# Altium integrated library TI Data Converters Digital to Analog Converter.IntLib: 1533 symbols (part 1 of 99)
Pins are listed as number, name and electrical type; pins without a type are passive.

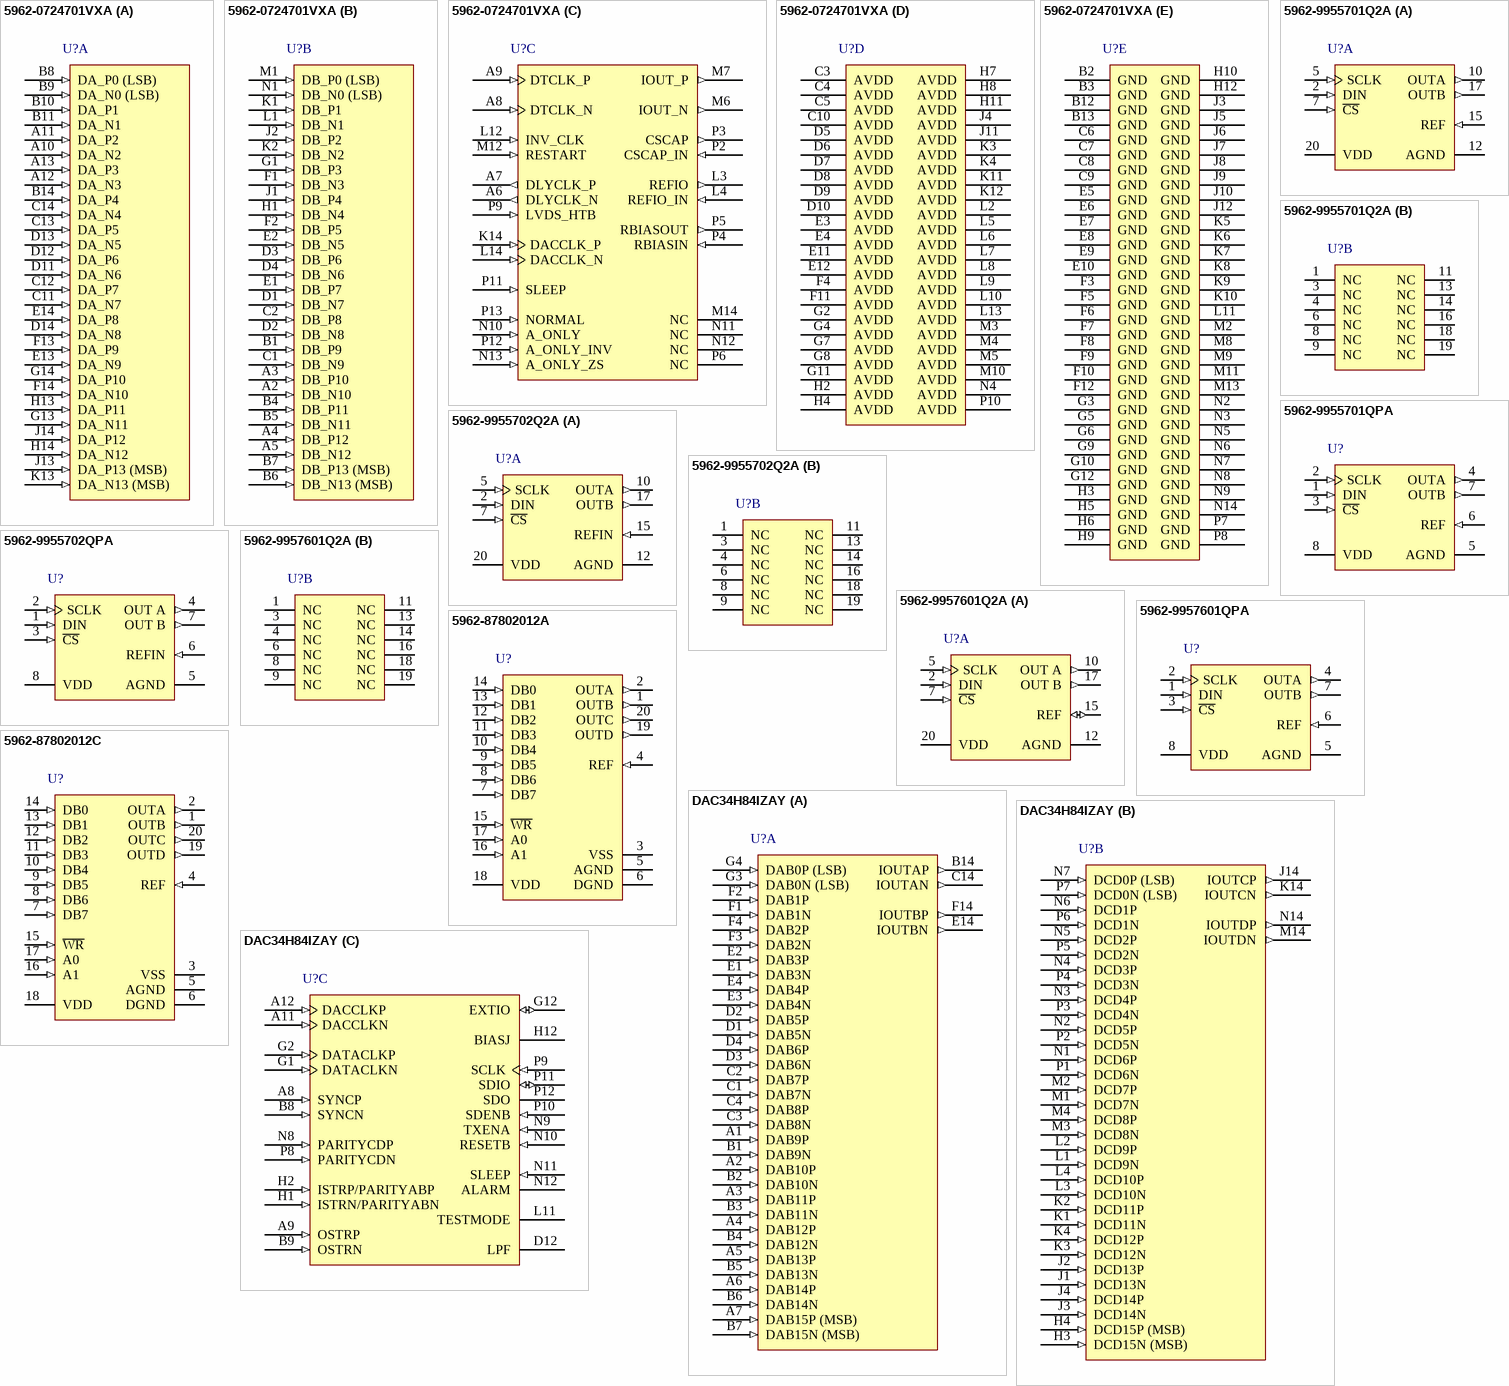
[diagram p0: symbols 5962-0724701VXA to DAC34H84IZAY]

## 5962-0724701VXA
designator U?
14-Bit, 2.4 GSPS DAC, -55 to 125 degC, 192-pin BGA (GEM192); Manufacturer: Texas Instruments; PartNumber: 5962-0724701VXA; DAC Channels: 1; DNL(Max)(+/-LSB): 1.75; INL(Max)(+/-LSB): 7.5; Interface: Parallel LVDS; Power Consumption(Typ)(mW): 1800; Resolution(Bits): 14; Settling Time(us): 0.0035; SFDR(dB): 55; SNR(dB): 60; SubFamily: High Speed DAC (>10MSPS); DatasheetVersion: SGLS386D; PackageVersion: 4209149/A, 11/2007; PackageReference: GEM192; PackageDescription: 192-Pin Ceramic Ball Grid Array, Body 19 x 19 mm, Pitch 1.27 mm; Supplier 1: Mouser; Supplier Part Number 1: 595-5962-0724701VXA; Mounting Technology: Surface Mount; Code_JEDEC: MO-156; ComponentLink1Description: Manufacturer URL; ComponentLink1URL: http://www.ti.com/; ComponentLink2Description: Datasheet; ComponentLink2URL: http://www.ti.com/general/docs/lit/getliterature.tsp?genericPartNumber=DAC5670-SP&fileType=pdf; ComponentLink3Description: Package Specification; ComponentLink3URL: http://www.ti.com/litv/pdf/mcbg054
footprint TI-GEM192 (BGA, 192-Balls, Body 19x19mm, Pitch 1.27mm)
part A pins: A10 DA_N2 (in) "Port A data bit 2 complement", A11 DA_P2 (in) "Port A data bit 2", A12 DA_N3 (in) "Port A data bit 3 complement", A13 DA_P3 (in) "Port A data bit 3", B8 DA_P0 (LSB) (in) "Port A data bit 0 (LSB)", B9 DA_N0 (LSB) (in) "Port A data bit 0 complement (LSB)", B10 DA_P1 (in) "Port A data bit 1", B11 DA_N1 (in) "Port A data bit 1 complement", B14 DA_P4 (in) "Port A data bit 4", C11 DA_N7 (in) "Port A data bit 7 complement", C12 DA_P7 (in) "Port A data bit 7", C13 DA_P5 (in) "Port A data bit 5", C14 DA_N4 (in) "Port A data bit 4 complement", D11 DA_N6 (in) "Port A data bit 6 complement", D12 DA_P6 (in) "Port A data bit 6", D13 DA_N5 (in) "Port A data bit 5 complement", D14 DA_N8 (in) "Port A data bit 8 complement", E13 DA_N9 (in) "Port A data bit 9 complement", E14 DA_P8 (in) "Port A data bit 8", F13 DA_P9 (in) "Port A data bit 9", F14 DA_N10 (in) "Port A data bit 10 complement", G13 DA_N11 (in) "Port A data bit 11 complement", G14 DA_P10 (in) "Port A data bit 10", H13 DA_P11 (in) "Port A data bit 11", H14 DA_N12 (in) "Port A data bit 12 complement", J13 DA_P13 (MSB) (in) "Port A data bit 13 (MSB)", J14 DA_P12 (in) "Port A data bit 12", K13 DA_N13 (MSB) (in) "Port A data bit 13 complement (MSB)"
part B pins: A2 DB_N10 (in) "Port B data bit 10 complement", A3 DB_P10 (in) "Port B data bit 10", A4 DB_P12 (in) "Port B data bit 12", A5 DB_N12 (in) "Port B data bit 12 complement", B1 DB_P9 (in) "Port B data bit 9", B4 DB_P11 (in) "Port B data bit 11", B5 DB_N11 (in) "Port B data bit 11 complement", B6 DB_N13 (MSB) (in) "Port B data bit 13 complement (MSB)", B7 DB_P13 (MSB) (in) "Port B data bit 13 (MSB)", C1 DB_N9 (in) "Port B data bit 9 complement", C2 DB_P8 (in) "Port B data bit 8", D1 DB_N7 (in) "Port B data bit 7 complement", D2 DB_N8 (in) "Port B data bit 8 complement", D3 DB_P6 (in) "Port B data bit 6", D4 DB_N6 (in) "Port B data bit 6 complement", E1 DB_P7 (in) "Port B data bit 7", E2 DB_N5 (in) "Port B data bit 5 complement", F1 DB_N3 (in) "Port B data bit 3 complement", F2 DB_P5 (in) "Port B data bit 5", G1 DB_P3 (in) "Port B data bit 3", H1 DB_N4 (in) "Port B data bit 4 complement", J1 DB_P4 (in) "Port B data bit 4", J2 DB_P2 (in) "Port B data bit 2", K1 DB_P1 (in) "Port B data bit 1", K2 DB_N2 (in) "Port B data bit 2 complement", L1 DB_N1 (in) "Port B data bit 1 complement", M1 DB_P0 (LSB) (in) "Port B data bit 0 (LSB)", N1 DB_N0 (LSB) (in) "Port B data bit 0 complement (LSB)"
part C pins: A6 DLYCLK_N (out) "DDR type data clock to data source complementary signal", A7 DLYCLK_P (out) "DDR type data clock to data source", A8 DTCLK_N (in) "Input data toggling reference bit, complementary signal", A9 DTCLK_P (in) "Input data toggling reference bit", K14 DACCLK_P (in) "External clock, sample clock for the DAC", L3 REFIO (out) "Bandgap reference output", L4 REFIO_IN (in) "Bandgap reference sense input", L12 INV_CLK (in) "Inverts the DLL target clocking relationship when high. Low for normal DLL operation. See DLL Usage section.", L14 DACCLK_N (in) "Complementary external clock, sample clock for the DAC", M6 IOUT_N (out) "DAC complementary current output. Full scale when all input bits are 0.", M7 IOUT_P (out) "DAC current output. Full scale when all input bits are set 1.", M12 RESTART (in) "Resets DLL when high. Low for DLL operation. High for using external setup/hold timing.", M14 NC, N10 A_ONLY (in) "High for {a0,a0,a1,a1,a2,a2, …} A_only mode", N11 NC, N12 NC, N13 A_ONLY_ZS (in) "High for {a0,0,a1,0,a2,0, …} A_only_zs mode", P2 CSCAP_IN (in) "Current source bias voltage sense input", P3 CSCAP (out) "Current source bias voltage", P4 RBIASIN (in) "Rbias resistor sense input", P5 RBIASOUT (out) "Rbias resistor current output", P6 NC, P9 LVDS_HTB (in) "DLYCLK_P/N control, lvds mode when high, ht mode when low", P11 SLEEP (in) "Active-high sleep", P12 A_ONLY_INV (in) "High for {a0,-a0, a1,-a1,a2,-a2, ...} A_only_inv mode", P13 NORMAL (in) "High for {a0,b0,a1,b1,a2,b2, …} normal mode"
part D pins: C3 AVDD (power), C4 AVDD (power), C5 AVDD (power), C10 AVDD (power), D5 AVDD (power), D6 AVDD (power), D7 AVDD (power), D8 AVDD (power), D9 AVDD (power), D10 AVDD (power), E3 AVDD (power), E4 AVDD (power), E11 AVDD (power), E12 AVDD (power), F4 AVDD (power), F11 AVDD (power), G2 AVDD (power), G4 AVDD (power), G7 AVDD (power), G8 AVDD (power), G11 AVDD (power), H2 AVDD (power), H4 AVDD (power), H7 AVDD (power), H8 AVDD (power), H11 AVDD (power), J4 AVDD (power), J11 AVDD (power), K3 AVDD (power), K4 AVDD (power), K11 AVDD (power), K12 AVDD (power), L2 AVDD (power), L5 AVDD (power), L6 AVDD (power), L7 AVDD (power), L8 AVDD (power), L9 AVDD (power), L10 AVDD (power), L13 AVDD (power), M3 AVDD (power), M4 AVDD (power), M5 AVDD (power), M10 AVDD (power), N4 AVDD (power), P10 AVDD (power)
part E pins: B2 GND (power), B3 GND (power), B12 GND (power), B13 GND (power), C6 GND (power), C7 GND (power), C8 GND (power), C9 GND (power), E5 GND (power), E6 GND (power), E7 GND (power), E8 GND (power), E9 GND (power), E10 GND (power), F3 GND (power), F5 GND (power), F6 GND (power), F7 GND (power), F8 GND (power), F9 GND (power), F10 GND (power), F12 GND (power), G3 GND (power), G5 GND (power), G6 GND (power), G9 GND (power), G10 GND (power), G12 GND (power), H3 GND (power), H5 GND (power), H6 GND (power), H9 GND (power), H10 GND (power), H12 GND (power), J3 GND (power), J5 GND (power), J6 GND (power), J7 GND (power), J8 GND (power), J9 GND (power), J10 GND (power), J12 GND (power), K5 GND (power), K6 GND (power), K7 GND (power), K8 GND (power), K9 GND (power), K10 GND (power), L11 GND (power), M2 GND (power), M8 GND (power), M9 GND (power), M11 GND (power), M13 GND (power), N2 GND (power), N3 GND (power), N5 GND (power), N6 GND (power), N7 GND (power), N8 GND (power), N9 GND (power), N14 GND (power), P7 GND (power), P8 GND (power)

## 5962-9955701Q2A
designator U?
12-Bit, 2.5 us Dual DAC, Serial Input, Programmable Settling Time, -55 to 125 degC, 20-pin LCC (FK20); Manufacturer: Texas Instruments; PartNumber: 5962-9955701Q2A; DAC Channels: 2; DNL(Max)(+/-LSB): 1; INL(Max)(+/-LSB): 4; Interface: Serial SPI; Power Consumption(Typ)(mW): 1.8; Resolution(Bits): 12; Settling Time(us): 3; SFDR(dB): 72; SNR(dB): 76; SubFamily: Precision DAC (=<10MSPS); DatasheetVersion: SLAS230H; PackageVersion: 4040140/D, 01/2011; PackageReference: FK20; PackageDescription: 20-Pin Ceramic, Metal Chip Carrier, Body 8.89 x 8.89 mm, Pitch 1.27 mm; Mounting Technology: Surface Mount; Code_JEDEC: MS-004; ComponentLink1Description: Manufacturer URL; ComponentLink1URL: http://www.ti.com/; ComponentLink2Description: Datasheet; ComponentLink2URL: http://www.ti.com/general/docs/lit/getliterature.tsp?genericPartNumber=TLV5618AM&fileType=pdf; ComponentLink3Description: Package Specification; ComponentLink3URL: http://www.ti.com/litv/pdf/mlcc006d
footprint TI-FK20_N (Leadless Chip Carrier, 20-Leads, Body 8.9x8.9mm, Pitch 1.27mm, IPC Medium Density)
footprint TI-FK20_L (Leadless Chip Carrier, 20-Leads, Body 8.9x8.9mm, Pitch 1.27mm, IPC High Density)
footprint TI-FK20_M (Leadless Chip Carrier, 20-Leads, Body 8.9x8.9mm, Pitch 1.27mm, IPC Low Density)
part A pins: 2 DIN (in) "Digital serial data input", 5 SCLK (in) "Digital serial clock input", 7 ~{CS} (in) "Chip select. Digital input active low, used to enable/disable inputs", 10 OUTA (out) "DAC A analog voltage output", 12 AGND (power) "Ground", 15 REF (in) "Analog reference voltage input", 17 OUTB (out) "DAC B analog voltage output", 20 VDD (power) "Positive power supply"
part B pins: 1 NC, 3 NC, 4 NC, 6 NC, 8 NC, 9 NC, 11 NC, 13 NC, 14 NC, 16 NC, 18 NC, 19 NC

## 5962-9955701QPA
designator U?
12-Bit, 2.5 us Dual DAC, Serial Input, Programmable Settling Time, -55 to 125 degC, 8-pin DIP (JG8); Manufacturer: Texas Instruments; PartNumber: 5962-9955701QPA; DAC Channels: 2; DNL(Max)(+/-LSB): 1; INL(Max)(+/-LSB): 4; Interface: Serial SPI; Power Consumption(Typ)(mW): 1.8; Resolution(Bits): 12; Settling Time(us): 3; SFDR(dB): 72; SNR(dB): 76; SubFamily: Precision DAC (=<10MSPS); DatasheetVersion: SLAS230H; PackageVersion: 4040107/C, 08/1996; PackageReference: JG8; PackageDescription: 8-Pin Ceramic, Glass In-Line, Body 9.58 x 6.665 mm, Pitch 2.54 mm; Mounting Technology: Through Hole; ComponentLink1Description: Manufacturer URL; ComponentLink1URL: http://www.ti.com/; ComponentLink2Description: Datasheet; ComponentLink2URL: http://www.ti.com/general/docs/lit/getliterature.tsp?genericPartNumber=TLV5618AM&fileType=pdf; ComponentLink3Description: Package Specification; ComponentLink3URL: http://www.ti.com/litv/pdf/mcer001a
footprint TI-JG8 (DIP, 8-Leads, Body 10.15x7.1mm, Pitch 2.54mm)
pins: 1 DIN (in) "Digital serial data input", 2 SCLK (in) "Digital serial clock input", 3 ~{CS} (in) "Chip select. Digital input active low, used to enable/disable inputs.", 4 OUTA (out) "DAC A analog voltage output", 5 AGND (power) "Ground", 6 REF (in) "Analog reference voltage input", 7 OUTB (out) "DAC B analog voltage output", 8 VDD (power) "Positive power supply"

## 5962-9955702Q2A
designator U?
12-Bit, 2.5 us Dual DAC, Serial Input, Programmable Settling Time, Simultaneous Update, Low Power, -55 to 125 degC, 20-pin LCC (FK20); Manufacturer: Texas Instruments; PartNumber: 5962-9955702Q2A; DAC Channels: 2; DNL(Max)(+/-LSB): 1; INL(Max)(+/-LSB): 4; Interface: Serial SPI; Power Consumption(Typ)(mW): 8; Resolution(Bits): 12; Settling Time(us): 2.5; SubFamily: Precision DAC (=<10MSPS); DatasheetVersion: SLAS156G; PackageVersion: 4040140/D, 01/2011; PackageReference: FK20; PackageDescription: 20-Pin Ceramic, Metal Chip Carrier, Body 8.89 x 8.89 mm, Pitch 1.27 mm; Mounting Technology: Surface Mount; Code_JEDEC: MS-004; ComponentLink1Description: Manufacturer URL; ComponentLink1URL: http://www.ti.com/; ComponentLink2Description: Datasheet; ComponentLink2URL: http://www.ti.com/general/docs/lit/getliterature.tsp?genericPartNumber=TLC5618AM&fileType=pdf; ComponentLink3Description: Package Specification; ComponentLink3URL: http://www.ti.com/litv/pdf/mlcc006d
footprint TI-FK20_N (Leadless Chip Carrier, 20-Leads, Body 8.9x8.9mm, Pitch 1.27mm, IPC Medium Density)
footprint TI-FK20_L (Leadless Chip Carrier, 20-Leads, Body 8.9x8.9mm, Pitch 1.27mm, IPC High Density)
footprint TI-FK20_M (Leadless Chip Carrier, 20-Leads, Body 8.9x8.9mm, Pitch 1.27mm, IPC Low Density)
part A pins: 2 DIN (in) "Serial data input", 5 SCLK (in) "Serial clock input", 7 ~{CS} (in) "Chip select, active low", 10 OUTA (out) "DAC A analog output", 12 AGND (power) "Analog ground", 15 REFIN (in) "Reference voltage input", 17 OUTB (out) "DAC B analog output", 20 VDD (power) "Positive power supply"
part B pins: 1 NC, 3 NC, 4 NC, 6 NC, 8 NC, 9 NC, 11 NC, 13 NC, 14 NC, 16 NC, 18 NC, 19 NC

## 5962-9955702QPA
designator U?
12-Bit, 2.5 us Dual DAC, Serial Input, Programmable Settling Time, Simultaneous Update, Low Power, -55 to 125 degC, 8-pin DIP (JG8); Manufacturer: Texas Instruments; PartNumber: 5962-9955702QPA; DAC Channels: 2; DNL(Max)(+/-LSB): 1; INL(Max)(+/-LSB): 4; Interface: Serial SPI; Power Consumption(Typ)(mW): 8; Resolution(Bits): 12; Settling Time(us): 2.5; SubFamily: Precision DAC (=<10MSPS); DatasheetVersion: SLAS156G; PackageVersion: 4040107/C, 08/1996; PackageReference: JG8; PackageDescription: 8-Pin Ceramic, Glass In-Line, Body 9.58 x 6.665 mm, Pitch 2.54 mm; Mounting Technology: Through Hole; ComponentLink1Description: Manufacturer URL; ComponentLink1URL: http://www.ti.com/; ComponentLink2Description: Datasheet; ComponentLink2URL: http://www.ti.com/general/docs/lit/getliterature.tsp?genericPartNumber=TLC5618AM&fileType=pdf; ComponentLink3Description: Package Specification; ComponentLink3URL: http://www.ti.com/litv/pdf/mcer001a
footprint TI-JG8 (DIP, 8-Leads, Body 10.15x7.1mm, Pitch 2.54mm)
pins: 1 DIN (in) "Serial data input", 2 SCLK (in) "Serial clock input", 3 ~{CS} (in) "Chip select, active low", 4 OUT A (out) "DAC A analog output", 5 AGND (power) "Analog ground", 6 REFIN (in) "Reference voltage input", 7 OUT B (out) "DAC B analog output", 8 VDD (power) "Positive power supply"

## 5962-9957601Q2A
designator U?
12-Bit, 1 or 3.5 us DAC Serial Input, Dual DAC, Programmable Internal Reference, Settling Time, Power Consumption, -55 to 125 degC, 20-pin LCC (FK20); Manufacturer: Texas Instruments; PartNumber: 5962-9957601Q2A; DAC Channels: 2; DNL(Max)(+/-LSB): 1; INL(Max)(+/-LSB): 6; Interface: Serial SPI; Power Consumption(Typ)(mW): 4.5; Resolution(Bits): 12; SFDR(dB): 72; SNR(dB): 74; SubFamily: Precision DAC (=<10MSPS); DatasheetVersion: SLAS225C; PackageVersion: 4040140/D, 01/2011; PackageReference: FK20; PackageDescription: 20-Pin Ceramic, Metal Chip Carrier, Body 8.89 x 8.89 mm, Pitch 1.27 mm; Settling Time(us): 1; Mounting Technology: Surface Mount; Code_JEDEC: MS-004; ComponentLink1Description: Manufacturer URL; ComponentLink1URL: http://www.ti.com/; ComponentLink2Description: Datasheet; ComponentLink2URL: http://www.ti.com/general/docs/lit/getliterature.tsp?genericPartNumber=TLV5638M&fileType=pdf; ComponentLink3Description: Package Specification; ComponentLink3URL: http://www.ti.com/litv/pdf/mlcc006d
footprint TI-FK20_N (Leadless Chip Carrier, 20-Leads, Body 8.9x8.9mm, Pitch 1.27mm, IPC Medium Density)
footprint TI-FK20_L (Leadless Chip Carrier, 20-Leads, Body 8.9x8.9mm, Pitch 1.27mm, IPC High Density)
footprint TI-FK20_M (Leadless Chip Carrier, 20-Leads, Body 8.9x8.9mm, Pitch 1.27mm, IPC Low Density)
part A pins: 2 DIN (in) "Digital serial data input", 5 SCLK (in) "Digital serial clock input", 7 ~{CS} (in) "Chip select. Digital input active low, used to enable/disable inputs", 10 OUT A (out) "DAC A analog voltage output", 12 AGND (power) "Ground", 15 REF (io) "Analog reference voltage input/output", 17 OUT B (out) "DAC B analog voltage output", 20 VDD (power) "Positive power supply"
part B pins: 1 NC, 3 NC, 4 NC, 6 NC, 8 NC, 9 NC, 11 NC, 13 NC, 14 NC, 16 NC, 18 NC, 19 NC

## 5962-9957601QPA
designator U?
12-Bit, 1 or 3.5 us DAC Serial Input, Dual DAC, Programmable Internal Reference, Settling Time, Power Consumption, -55 to 125 degC, 8-pin DIP (JG8); Manufacturer: Texas Instruments; PartNumber: 5962-9957601QPA; DAC Channels: 2; DNL(Max)(+/-LSB): 1; INL(Max)(+/-LSB): 6; Interface: Serial SPI; Power Consumption(Typ)(mW): 4.5; Resolution(Bits): 12; SFDR(dB): 72; SNR(dB): 74; SubFamily: Precision DAC (=<10MSPS); DatasheetVersion: SLAS225C; PackageVersion: 4040107/C, 08/1996; PackageReference: JG8; PackageDescription: 8-Pin Ceramic, Glass In-Line, Body 9.58 x 6.665 mm, Pitch 2.54 mm; Supplier 1: Mouser; Supplier Part Number 1: 595-5962-9957601QPA; Settling Time(us): 1; Mounting Technology: Through Hole; ComponentLink1Description: Manufacturer URL; ComponentLink1URL: http://www.ti.com/; ComponentLink2Description: Datasheet; ComponentLink2URL: http://www.ti.com/general/docs/lit/getliterature.tsp?genericPartNumber=TLV5638M&fileType=pdf; ComponentLink3Description: Package Specification; ComponentLink3URL: http://www.ti.com/litv/pdf/mcer001a
footprint TI-JG8 (DIP, 8-Leads, Body 10.15x7.1mm, Pitch 2.54mm)
pins: 1 DIN (in) "Digital serial data input", 2 SCLK (in) "Digital serial clock input", 3 ~{CS} (in) "Chip select. Digital input active low, used to enable/disable inputs.", 4 OUTA (out) "DAC A analog voltage output", 5 AGND (power) "Ground", 6 REF (in) "Analog reference voltage input", 7 OUTB (out) "DAC B analog voltage output", 8 VDD (power) "Positive power supply"

## 5962-87802012A
designator U?
8-Bit, 5 us Quad DAC, Parallel Input, Single / Dual Supply, -55 to 125 degC, 20-pin LCC (FK20); Manufacturer: Texas Instruments; PartNumber: 5962-87802012A; DAC Channels: 4; Resolution(Bits): 8; Settling Time(us): 5; SubFamily: Precision DAC (=<10MSPS); DatasheetVersion: SLAS060F; PackageVersion: 4040140/D, 01/2011; PackageReference: FK20; PackageDescription: 20-Pin Ceramic, Metal Chip Carrier, Body 8.89 x 8.89 mm, Pitch 1.27 mm; Interface: Parallel; Mounting Technology: Surface Mount; Code_JEDEC: MS-004; ComponentLink1Description: Manufacturer URL; ComponentLink1URL: http://www.ti.com/; ComponentLink2Description: Datasheet; ComponentLink2URL: http://www.ti.com/general/docs/lit/getliterature.tsp?genericPartNumber=TLC7226M&fileType=pdf; ComponentLink3Description: Package Specification; ComponentLink3URL: http://www.ti.com/litv/pdf/mlcc006d
footprint TI-FK20_N (Leadless Chip Carrier, 20-Leads, Body 8.9x8.9mm, Pitch 1.27mm, IPC Medium Density)
footprint TI-FK20_L (Leadless Chip Carrier, 20-Leads, Body 8.9x8.9mm, Pitch 1.27mm, IPC High Density)
footprint TI-FK20_M (Leadless Chip Carrier, 20-Leads, Body 8.9x8.9mm, Pitch 1.27mm, IPC Low Density)
pins: 1 OUTB (out) "DACB output. OUTB is the analog output of DACB.", 2 OUTA (out) "DACA output. OUTA is the analog output of DACA.", 3 VSS (power) "Negative supply voltage input terminal", 4 REF (in) "Voltage reference input. The voltage level on REF determines the full scale analog output.", 5 AGND (power) "Analog ground. AGND is the reference and return terminal for the analog signals and supply.", 6 DGND (power) "Digital ground. DGND is the reference and return terminal for the digital signals and supply.", 7 DB7 (in) "Digital DAC data inputs. DB0-DB7 are the input digital data used for conversion.", 8 DB6 (in) "Digital DAC data inputs. DB0-DB7 are the input digital data used for conversion.", 9 DB5 (in) "Digital DAC data inputs. DB0-DB7 are the input digital data used for conversion.", 10 DB4 (in) "Digital DAC data inputs. DB0-DB7 are the input digital data used for conversion.", 11 DB3 (in) "Digital DAC data inputs. DB0-DB7 are the input digital data used for conversion.", 12 DB2 (in) "Digital DAC data inputs. DB0-DB7 are the input digital data used for conversion.", 13 DB1 (in) "Digital DAC data inputs. DB0-DB7 are the input digital data used for conversion.", 14 DB0 (in) "Digital DAC data inputs. DB0-DB7 are the input digital data used for conversion.", 15 ~{WR} (in) "Write input. W\R\ selects DAC transparency or latch mode. The selected input latch is transparent when W\R\ is low.", 16 A1 (in) "DAC select inputs. The combination of high or low levels select either DACA, DACB, DACC, or DACD.", 17 A0 (in) "DAC select inputs. The combination of high or low levels select either DACA, DACB, DACC, or DACD.", 18 VDD (power) "Positive supply voltage input terminal", 19 OUTD (out) "DACD output. OUTD is the analog output of DACD.", 20 OUTC (out) "DACC output. OUTC is the analog output of DACC."

## 5962-87802012C
designator U?
8-Bit, 5 us Quad DAC, Parallel Input, Single / Dual Supply, -55 to 125 degC, 20-pin LCC (FK20); Manufacturer: Texas Instruments; PartNumber: 5962-87802012C; DAC Channels: 4; Resolution(Bits): 8; Settling Time(us): 5; SubFamily: Precision DAC (=<10MSPS); DatasheetVersion: SLAS060F; PackageVersion: 4040140/D, 01/2011; PackageReference: FK20; PackageDescription: 20-Pin Ceramic, Metal Chip Carrier, Body 8.89 x 8.89 mm, Pitch 1.27 mm; Interface: Parallel; Mounting Technology: Surface Mount; Code_JEDEC: MS-004; ComponentLink1Description: Manufacturer URL; ComponentLink1URL: http://www.ti.com/; ComponentLink2Description: Datasheet; ComponentLink2URL: http://www.ti.com/general/docs/lit/getliterature.tsp?genericPartNumber=TLC7226M&fileType=pdf; ComponentLink3Description: Package Specification; ComponentLink3URL: http://www.ti.com/litv/pdf/mlcc006d
footprint TI-FK20_N (Leadless Chip Carrier, 20-Leads, Body 8.9x8.9mm, Pitch 1.27mm, IPC Medium Density)
footprint TI-FK20_L (Leadless Chip Carrier, 20-Leads, Body 8.9x8.9mm, Pitch 1.27mm, IPC High Density)
footprint TI-FK20_M (Leadless Chip Carrier, 20-Leads, Body 8.9x8.9mm, Pitch 1.27mm, IPC Low Density)
pins: 1 OUTB (out) "DACB output. OUTB is the analog output of DACB.", 2 OUTA (out) "DACA output. OUTA is the analog output of DACA.", 3 VSS (power) "Negative supply voltage input terminal", 4 REF (in) "Voltage reference input. The voltage level on REF determines the full scale analog output.", 5 AGND (power) "Analog ground. AGND is the reference and return terminal for the analog signals and supply.", 6 DGND (power) "Digital ground. DGND is the reference and return terminal for the digital signals and supply.", 7 DB7 (in) "Digital DAC data inputs. DB0-DB7 are the input digital data used for conversion.", 8 DB6 (in) "Digital DAC data inputs. DB0-DB7 are the input digital data used for conversion.", 9 DB5 (in) "Digital DAC data inputs. DB0-DB7 are the input digital data used for conversion.", 10 DB4 (in) "Digital DAC data inputs. DB0-DB7 are the input digital data used for conversion.", 11 DB3 (in) "Digital DAC data inputs. DB0-DB7 are the input digital data used for conversion.", 12 DB2 (in) "Digital DAC data inputs. DB0-DB7 are the input digital data used for conversion.", 13 DB1 (in) "Digital DAC data inputs. DB0-DB7 are the input digital data used for conversion.", 14 DB0 (in) "Digital DAC data inputs. DB0-DB7 are the input digital data used for conversion.", 15 ~{WR} (in) "Write input. W\R\ selects DAC transparency or latch mode. The selected input latch is transparent when W\R\ is low.", 16 A1 (in) "DAC select inputs. The combination of high or low levels select either DACA, DACB, DACC, or DACD.", 17 A0 (in) "DAC select inputs. The combination of high or low levels select either DACA, DACB, DACC, or DACD.", 18 VDD (power) "Positive supply voltage input terminal", 19 OUTD (out) "DACD output. OUTD is the analog output of DACD.", 20 OUTC (out) "DACC output. OUTC is the analog output of DACC."

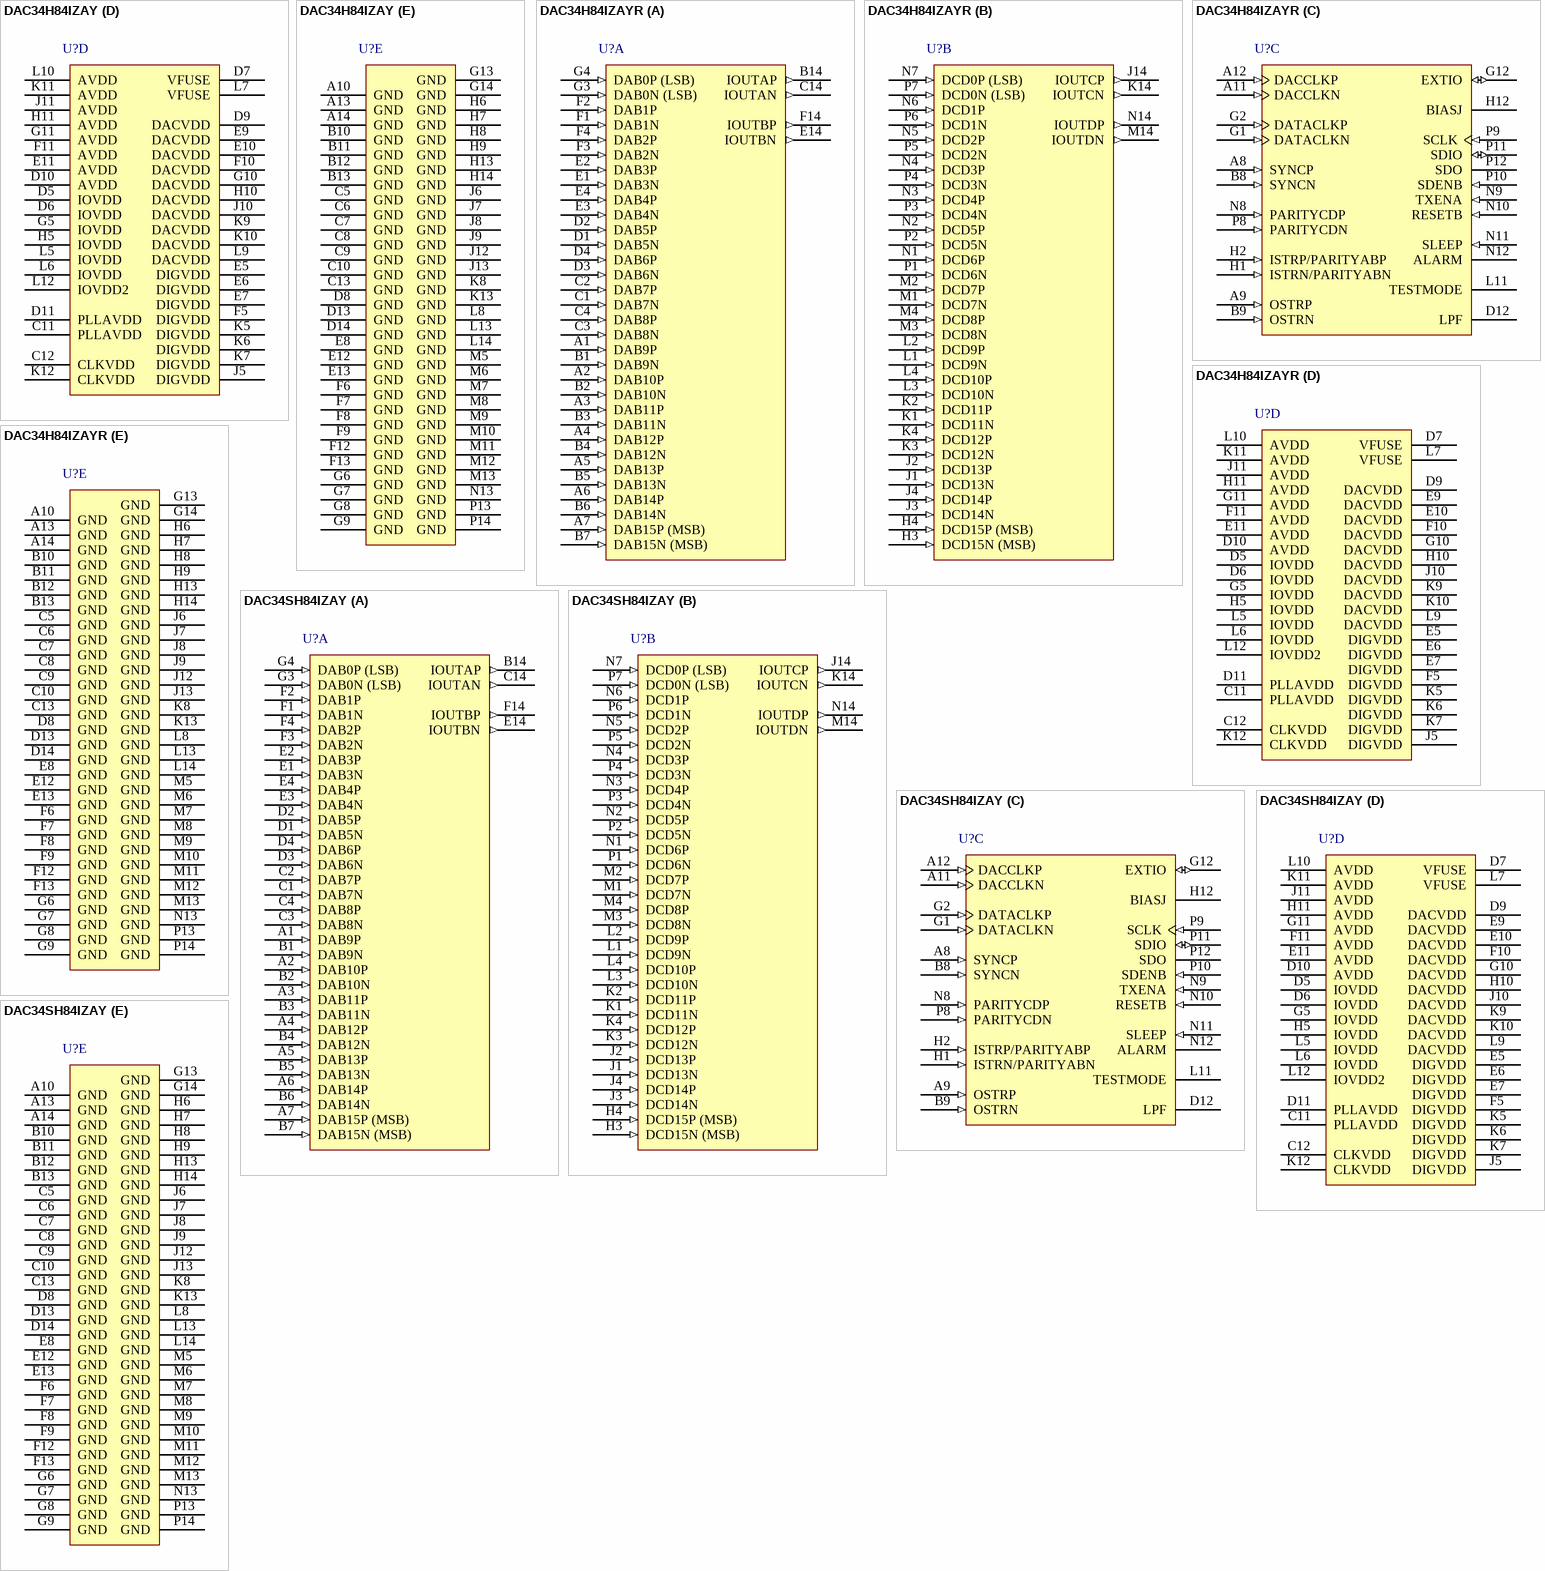
[diagram p1: symbols DAC34H84IZAY to DAC34SH84IZAY]

## DAC34H84IZAY
designator U?
4-Channel 16-Bit 1.25 GSPS DAC, -40 to 85 degC, 196-pin BGA (ZAY196), Green (RoHS & no Sb/Br); Manufacturer: Texas Instruments; PartNumber: DAC34H84IZAY; DAC Channels: 4; Interface: Parallel LVDS; Power Consumption(Typ)(mW): 1440; Resolution(Bits): 16; Settling Time(us): 0.01; SFDR(dB): 73; SubFamily: High Speed DAC (>10MSPS); DatasheetVersion: SLAS751C; PackageVersion: 4208324-4/C, 09/2010; PackageReference: ZAY196; PackageDescription: 196-Pin Plastic Ball Grid Array, Body 12 x 12 mm, Pitch 0.8 mm; Supplier 1: Digi-Key; Supplier Part Number 1: 296-29393-ND; Supplier 2: Newark; Supplier Part Number 2: 52T7709; Supplier 3: Mouser; Supplier Part Number 3: 595-DAC34H84IZAY; Eco-Plan: Green (RoHS & no Sb/Br); Mounting Technology: Surface Mount; ComponentLink1Description: Manufacturer URL; ComponentLink1URL: http://www.ti.com/; ComponentLink2Description: Datasheet; ComponentLink2URL: http://www.ti.com/general/docs/lit/getliterature.tsp?genericPartNumber=DAC34H84&fileType=pdf; ComponentLink3Description: Package Specification; ComponentLink3URL: http://www.ti.com/litv/pdf/mpbga11
footprint TI-ZAY196 (BGA, 196-Balls, Body 12x12mm, Pitch 0.8mm)
part A pins: A1 DAB9P (in) "LVDS positive input data bits 0 through 15 for the AB-channel path. Internal 100 ohm termination resistor. Data format relative to DATACLKP/N clock is Double Data Rate (DDR).DAB15P is most significant data bit (MSB) DAB0P is (See Datasheet)", A2 DAB10P (in) "LVDS positive input data bits 0 through 15 for the AB-channel path. Internal 100 ohm termination resistor. Data format relative to DATACLKP/N clock is Double Data Rate (DDR).DAB15P is most significant data bit (MSB) DAB0P is (See Datasheet)", A3 DAB11P (in) "LVDS positive input data bits 0 through 15 for the AB-channel path. Internal 100 ohm termination resistor. Data format relative to DATACLKP/N clock is Double Data Rate (DDR).DAB15P is most significant data bit (MSB) DAB0P is (See Datasheet)", A4 DAB12P (in) "LVDS positive input data bits 0 through 15 for the AB-channel path. Internal 100 ohm termination resistor. Data format relative to DATACLKP/N clock is Double Data Rate (DDR).DAB15P is most significant data bit (MSB) DAB0P is (See Datasheet)", A5 DAB13P (in) "LVDS positive input data bits 0 through 15 for the AB-channel path. Internal 100 ohm termination resistor. Data format relative to DATACLKP/N clock is Double Data Rate (DDR).DAB15P is most significant data bit (MSB) DAB0P is (See Datasheet)", A6 DAB14P (in) "LVDS positive input data bits 0 through 15 for the AB-channel path. Internal 100 ohm termination resistor. Data format relative to DATACLKP/N clock is Double Data Rate (DDR).DAB15P is most significant data bit (MSB) DAB0P is (See Datasheet)", A7 DAB15P (MSB) (in) "LVDS positive input data bits 0 through 15 for the AB-channel path. Internal 100 ohm termination resistor. Data format relative to DATACLKP/N clock is Double Data Rate (DDR).DAB15P is most significant data bit (MSB) DAB0P is (See Datasheet)", B1 DAB9N (in) "LVDS negative input data bits 0 through 15 for the AB-channel path. (See DAB[15:0]P description above)", B2 DAB10N (in) "LVDS negative input data bits 0 through 15 for the AB-channel path. (See DAB[15:0]P description above)", B3 DAB11N (in) "LVDS negative input data bits 0 through 15 for the AB-channel path. (See DAB[15:0]P description above)", B4 DAB12N (in) "LVDS negative input data bits 0 through 15 for the AB-channel path. (See DAB[15:0]P description above)", B5 DAB13N (in) "LVDS negative input data bits 0 through 15 for the AB-channel path. (See DAB[15:0]P description above)", B6 DAB14N (in) "LVDS negative input data bits 0 through 15 for the AB-channel path. (See DAB[15:0]P description above)", B7 DAB15N (MSB) (in) "LVDS negative input data bits 0 through 15 for the AB-channel path. (See DAB[15:0]P description above)", B14 IOUTAP (out) "A-Channel DAC current output. Connect directly to ground if unused.", C1 DAB7N (in) "LVDS negative input data bits 0 through 15 for the AB-channel path. (See DAB[15:0]P description above)", C2 DAB7P (in) "LVDS positive input data bits 0 through 15 for the AB-channel path. Internal 100 ohm termination resistor. Data format relative to DATACLKP/N clock is Double Data Rate (DDR).DAB15P is most significant data bit (MSB) DAB0P is (See Datasheet)", C3 DAB8N (in) "LVDS negative input data bits 0 through 15 for the AB-channel path. (See DAB[15:0]P description above)", C4 DAB8P (in) "LVDS positive input data bits 0 through 15 for the AB-channel path. Internal 100 ohm termination resistor. Data format relative to DATACLKP/N clock is Double Data Rate (DDR).DAB15P is most significant data bit (MSB) DAB0P is (See Datasheet)", C14 IOUTAN (out) "A-Channel DAC complementary current output. Connect directly to ground if unused.", D1 DAB5N (in) "LVDS negative input data bits 0 through 15 for the AB-channel path. (See DAB[15:0]P description above)", D2 DAB5P (in) "LVDS positive input data bits 0 through 15 for the AB-channel path. Internal 100 ohm termination resistor. Data format relative to DATACLKP/N clock is Double Data Rate (DDR).DAB15P is most significant data bit (MSB) DAB0P is (See Datasheet)", D3 DAB6N (in) "LVDS negative input data bits 0 through 15 for the AB-channel path. (See DAB[15:0]P description above)", D4 DAB6P (in) "LVDS positive input data bits 0 through 15 for the AB-channel path. Internal 100 ohm termination resistor. Data format relative to DATACLKP/N clock is Double Data Rate (DDR).DAB15P is most significant data bit (MSB) DAB0P is (See Datasheet)", E1 DAB3N (in) "LVDS negative input data bits 0 through 15 for the AB-channel path. (See DAB[15:0]P description above)", E2 DAB3P (in) "LVDS positive input data bits 0 through 15 for the AB-channel path. Internal 100 ohm termination resistor. Data format relative to DATACLKP/N clock is Double Data Rate (DDR).DAB15P is most significant data bit (MSB) DAB0P is (See Datasheet)", E3 DAB4N (in) "LVDS negative input data bits 0 through 15 for the AB-channel path. (See DAB[15:0]P description above)", E4 DAB4P (in) "LVDS positive input data bits 0 through 15 for the AB-channel path. Internal 100 ohm termination resistor. Data format relative to DATACLKP/N clock is Double Data Rate (DDR).DAB15P is most significant data bit (MSB) DAB0P is (See Datasheet)", E14 IOUTBN (out) "B-Channel DAC complementary current output. Connect directly to ground if unused.", F1 DAB1N (in) "LVDS negative input data bits 0 through 15 for the AB-channel path. (See DAB[15:0]P description above)", F2 DAB1P (in) "LVDS positive input data bits 0 through 15 for the AB-channel path. Internal 100 ohm termination resistor. Data format relative to DATACLKP/N clock is Double Data Rate (DDR).DAB15P is most significant data bit (MSB) DAB0P is (See Datasheet)", F3 DAB2N (in) "LVDS negative input data bits 0 through 15 for the AB-channel path. (See DAB[15:0]P description above)", F4 DAB2P (in) "LVDS positive input data bits 0 through 15 for the AB-channel path. Internal 100 ohm termination resistor. Data format relative to DATACLKP/N clock is Double Data Rate (DDR).DAB15P is most significant data bit (MSB) DAB0P is (See Datasheet)", F14 IOUTBP (out) "B-Channel DAC current output. Connect directly to ground if unused.", G3 DAB0N (LSB) (in) "LVDS negative input data bits 0 through 15 for the AB-channel path. (See DAB[15:0]P description above)", G4 DAB0P (LSB) (in) "LVDS positive input data bits 0 through 15 for the AB-channel path. Internal 100 ohm termination resistor. Data format relative to DATACLKP/N clock is Double Data Rate (DDR).DAB15P is most significant data bit (MSB) DAB0P is (See Datasheet)"
part B pins: H3 DCD15N (MSB) (in) "LVDS negative input data bits 0 through 15 for the CD-channel path. (See DCD[15:0]P description above)", H4 DCD15P (MSB) (in) "LVDS positive input data bits 0 through 15 for the CD-channel path. Internal 100 ohm termination resistor. Data format relative to DATACLKP/N clock is Double Data Rate (DDR).DCD15P is most significant data bit (MSB) DCD0P is (See Datasheet)", J1 DCD13N (in) "LVDS negative input data bits 0 through 15 for the CD-channel path. (See DCD[15:0]P description above)", J2 DCD13P (in) "LVDS positive input data bits 0 through 15 for the CD-channel path. Internal 100 ohm termination resistor. Data format relative to DATACLKP/N clock is Double Data Rate (DDR).DCD15P is most significant data bit (MSB) DCD0P is (See Datasheet)", J3 DCD14N (in) "LVDS negative input data bits 0 through 15 for the CD-channel path. (See DCD[15:0]P description above)", J4 DCD14P (in) "LVDS positive input data bits 0 through 15 for the CD-channel path. Internal 100 ohm termination resistor. Data format relative to DATACLKP/N clock is Double Data Rate (DDR).DCD15P is most significant data bit (MSB) DCD0P is (See Datasheet)", J14 IOUTCP (out) "C-Channel DAC current output. Connect directly to ground if unused.", K1 DCD11N (in) "LVDS negative input data bits 0 through 15 for the CD-channel path. (See DCD[15:0]P description above)", K2 DCD11P (in) "LVDS positive input data bits 0 through 15 for the CD-channel path. Internal 100 ohm termination resistor. Data format relative to DATACLKP/N clock is Double Data Rate (DDR).DCD15P is most significant data bit (MSB) DCD0P is (See Datasheet)", K3 DCD12N (in) "LVDS negative input data bits 0 through 15 for the CD-channel path. (See DCD[15:0]P description above)", K4 DCD12P (in) "LVDS positive input data bits 0 through 15 for the CD-channel path. Internal 100 ohm termination resistor. Data format relative to DATACLKP/N clock is Double Data Rate (DDR).DCD15P is most significant data bit (MSB) DCD0P is (See Datasheet)", K14 IOUTCN (out) "C-Channel DAC complementary current output. Connect directly to ground if unused.", L1 DCD9N (in) "LVDS negative input data bits 0 through 15 for the CD-channel path. (See DCD[15:0]P description above)", L2 DCD9P (in) "LVDS positive input data bits 0 through 15 for the CD-channel path. Internal 100 ohm termination resistor. Data format relative to DATACLKP/N clock is Double Data Rate (DDR).DCD15P is most significant data bit (MSB) DCD0P is (See Datasheet)", L3 DCD10N (in) "LVDS negative input data bits 0 through 15 for the CD-channel path. (See DCD[15:0]P description above)", L4 DCD10P (in) "LVDS positive input data bits 0 through 15 for the CD-channel path. Internal 100 ohm termination resistor. Data format relative to DATACLKP/N clock is Double Data Rate (DDR).DCD15P is most significant data bit (MSB) DCD0P is (See Datasheet)", M1 DCD7N (in) "LVDS negative input data bits 0 through 15 for the CD-channel path. (See DCD[15:0]P description above)", M2 DCD7P (in) "LVDS positive input data bits 0 through 15 for the CD-channel path. Internal 100 ohm termination resistor. Data format relative to DATACLKP/N clock is Double Data Rate (DDR).DCD15P is most significant data bit (MSB) DCD0P is (See Datasheet)", M3 DCD8N (in) "LVDS negative input data bits 0 through 15 for the CD-channel path. (See DCD[15:0]P description above)", M4 DCD8P (in) "LVDS positive input data bits 0 through 15 for the CD-channel path. Internal 100 ohm termination resistor. Data format relative to DATACLKP/N clock is Double Data Rate (DDR).DCD15P is most significant data bit (MSB) DCD0P is (See Datasheet)", M14 IOUTDN (out) "D-Channel DAC complementary current output. Connect directly to ground if unused.", N1 DCD6P (in) "LVDS positive input data bits 0 through 15 for the CD-channel path. Internal 100 ohm termination resistor. Data format relative to DATACLKP/N clock is Double Data Rate (DDR).DCD15P is most significant data bit (MSB) DCD0P is (See Datasheet)", N2 DCD5P (in) "LVDS positive input data bits 0 through 15 for the CD-channel path. Internal 100 ohm termination resistor. Data format relative to DATACLKP/N clock is Double Data Rate (DDR).DCD15P is most significant data bit (MSB) DCD0P is (See Datasheet)", N3 DCD4P (in) "LVDS positive input data bits 0 through 15 for the CD-channel path. Internal 100 ohm termination resistor. Data format relative to DATACLKP/N clock is Double Data Rate (DDR).DCD15P is most significant data bit (MSB) DCD0P is (See Datasheet)", N4 DCD3P (in) "LVDS positive input data bits 0 through 15 for the CD-channel path. Internal 100 ohm termination resistor. Data format relative to DATACLKP/N clock is Double Data Rate (DDR).DCD15P is most significant data bit (MSB) DCD0P is (See Datasheet)", N5 DCD2P (in) "LVDS positive input data bits 0 through 15 for the CD-channel path. Internal 100 ohm termination resistor. Data format relative to DATACLKP/N clock is Double Data Rate (DDR).DCD15P is most significant data bit (MSB) DCD0P is (See Datasheet)", N6 DCD1P (in) "LVDS positive input data bits 0 through 15 for the CD-channel path. Internal 100 ohm termination resistor. Data format relative to DATACLKP/N clock is Double Data Rate (DDR).DCD15P is most significant data bit (MSB) DCD0P is (See Datasheet)", N7 DCD0P (LSB) (in) "LVDS positive input data bits 0 through 15 for the CD-channel path. Internal 100 ohm termination resistor. Data format relative to DATACLKP/N clock is Double Data Rate (DDR).DCD15P is most significant data bit (MSB) DCD0P is (See Datasheet)", N14 IOUTDP (out) "D-Channel DAC current output. Connect directly to ground if unused.", P1 DCD6N (in) "LVDS negative input data bits 0 through 15 for the CD-channel path. (See DCD[15:0]P description above)", P2 DCD5N (in) "LVDS negative input data bits 0 through 15 for the CD-channel path. (See DCD[15:0]P description above)", P3 DCD4N (in) "LVDS negative input data bits 0 through 15 for the CD-channel path. (See DCD[15:0]P description above)", P4 DCD3N (in) "LVDS negative input data bits 0 through 15 for the CD-channel path. (See DCD[15:0]P description above)", P5 DCD2N (in) "LVDS negative input data bits 0 through 15 for the CD-channel path. (See DCD[15:0]P description above)", P6 DCD1N (in) "LVDS negative input data bits 0 through 15 for the CD-channel path. (See DCD[15:0]P description above)", P7 DCD0N (LSB) (in) "LVDS negative input data bits 0 through 15 for the CD-channel path. (See DCD[15:0]P description above)"
part C pins: A8 SYNCP (in) "LVDS SYNC positive input. Internal 100 ohm termination resistor. If unused it can be left unconnected. The PARITY, SYNC, and ISTR inputs are rotated to allow complete reversal of the data interface when setting the (See Datasheet)", A9 OSTRP (in) "Optional LVPECL output strobe positive input. This positive/negative pair is captured with the rising edge of DACCLKP/N. It is used to sync the divided-down clocks and FIFO output pointer in Dual Sync Sources Mode. If unused (See Datasheet)", A11 DACCLKN (in) "Complementary external LVPECL clock input for DAC core. (see the DACCLKP description)", A12 DACCLKP (in) "Positive external LVPECL clock input for DAC core with a self-bias.", B8 SYNCN (in) "LVDS SYNC negative input.", B9 OSTRN (in) "Optional LVPECL output strobe negative input. (See the OSTRP description)", D12 LPF "PLL loop filter connection. If not using the clock multiplying PLL, the LPF pin can be left unconnected.", G1 DATACLKN (in) "LVDS negative input data clock. (See DATACLKP description)", G2 DATACLKP (in) "LVDS positive input data clock. Internal 100 ohm termination resistor. Input data DAB[15:0]P/N and DCD[15:0]P/N are latched on both edges of DATACLKP/N (Double Data Rate).", G12 EXTIO (io) "Used as external reference input when internal reference is disabled through config27 extref_ena = ‘1’. Used as internal reference output when config27 extref_ena = ‘0’ (default). Requires a 0.1 uF dec(See Datasheet)", H1 ISTRN/PARITYABN (in) "LVDS input strope negative input. (See the ISTRP/PARITYABP description)", H2 ISTRP/PARITYABP (in) "LVDS input strobe positive input. Internal 100 ohm termination resistor. The main functions of this input are to sync the FIFO pointer, to provide a sync source to the digital blocks, and/or to act as a parity input for the (See Datasheet)", H12 BIASJ "Full-scale output current bias. For 30mA full-scale output current, connect 1.28kohm to ground. Change the full-scale output current through coarse_dac(3:0) in config3, bit<15:12>", L11 TESTMODE "This pin is used for factory testing. Internal pull-down. Leave unconnected for normal operation.", N8 PARITYCDP (in) "Optional LVDS positive input parity bit for the CD-data bus. The PARITYCDP/N LVDS pair has an internal 100 ohm termination resistor. If unused it can be left unconnected. The PARITY, SYNC, and ISTR inputs are rotated to (See Datasheet)", N9 TXENA (in) "Transmit enable active high input. Internal pull-down. To enable analog output data transmission, set sif_txenable in register config3 to “1” or pull CMOS TXENA pin to high. To disable analog output, set sif_txenable(See Datasheet)", N10 RESETB (in) "Active low input for chip RESET. Internal pull-up.", N11 SLEEP (in) "Active high asynchronous hardware power-down input. Internal pull-down.", N12 ALARM (hiz) "CMOS output for ALARM condition. The ALARM output functionality is defined through the config7 register. Default polarity is active high, but can be changed to active low via config0 alarm_out_pol control bit.", P8 PARITYCDN (in) "Optional LVDS negative input parity bit for the CD-data bus.", P9 SCLK (in) "Serial interface clock. Internal pull-down.", P10 SDENB (in) "Active low serial data enable, always an input to the DAC34H84. Internal pull-up.", P11 SDIO (io) "Serial interface data. Bi-directional in 3-pin mode (default) and uni-directional 4-pin mode. Internal pull-down.", P12 SDO (hiz) "Uni-directional serial interface data in 4-pin mode. The SDO pin is tri-stated in 3-pin interface mode (default)."
part D pins: C11 PLLAVDD (power) "PLL analog supply voltage. (3.3 V)", C12 CLKVDD (power) "Internal clock buffer supply voltage. (1.2 V). It is recommended to isolate this supply from DIGVDD and DACVDD.", D5 IOVDD (power) "Supply voltage for all LVDS I/O. (3.3 V)", D6 IOVDD (power) "Supply voltage for all LVDS I/O. (3.3 V)", D7 VFUSE (power) "Digital supply voltage. This supply pin is also used for factory fuse programming. Connect to DACVDD or DIGVDD for normal operation.", D9 DACVDD (power) "DAC core supply voltage. (1.2 V). It is recommended to isolate this supply from CLKVDD and DIGVDD.", D10 AVDD (power) "Analog supply voltage. (3.3 V)", D11 PLLAVDD (power) "PLL analog supply voltage. (3.3 V)", E5 DIGVDD (power) "Digital supply voltage. (1.2 V). It is recommended to isolate this supply from CLKVDD and DACVDD.", E6 DIGVDD (power) "Digital supply voltage. (1.2 V). It is recommended to isolate this supply from CLKVDD and DACVDD.", E7 DIGVDD (power) "Digital supply voltage. (1.2 V). It is recommended to isolate this supply from CLKVDD and DACVDD.", E9 DACVDD (power) "DAC core supply voltage. (1.2 V). It is recommended to isolate this supply from CLKVDD and DIGVDD.", E10 DACVDD (power) "DAC core supply voltage. (1.2 V). It is recommended to isolate this supply from CLKVDD and DIGVDD.", E11 AVDD (power) "Analog supply voltage. (3.3 V)", F5 DIGVDD (power) "Digital supply voltage. (1.2 V). It is recommended to isolate this supply from CLKVDD and DACVDD.", F10 DACVDD (power) "DAC core supply voltage. (1.2 V). It is recommended to isolate this supply from CLKVDD and DIGVDD.", F11 AVDD (power) "Analog supply voltage. (3.3 V)", G5 IOVDD (power) "Supply voltage for all LVDS I/O. (3.3 V)", G10 DACVDD (power) "DAC core supply voltage. (1.2 V). It is recommended to isolate this supply from CLKVDD and DIGVDD.", G11 AVDD (power) "Analog supply voltage. (3.3 V)", H5 IOVDD (power) "Supply voltage for all LVDS I/O. (3.3 V)", H10 DACVDD (power) "DAC core supply voltage. (1.2 V). It is recommended to isolate this supply from CLKVDD and DIGVDD.", H11 AVDD (power) "Analog supply voltage. (3.3 V)", J5 DIGVDD (power) "Digital supply voltage. (1.2 V). It is recommended to isolate this supply from CLKVDD and DACVDD.", J10 DACVDD (power) "DAC core supply voltage. (1.2 V). It is recommended to isolate this supply from CLKVDD and DIGVDD.", J11 AVDD (power) "Analog supply voltage. (3.3 V)", K5 DIGVDD (power) "Digital supply voltage. (1.2 V). It is recommended to isolate this supply from CLKVDD and DACVDD.", K6 DIGVDD (power) "Digital supply voltage. (1.2 V). It is recommended to isolate this supply from CLKVDD and DACVDD.", K7 DIGVDD (power) "Digital supply voltage. (1.2 V). It is recommended to isolate this supply from CLKVDD and DACVDD.", K9 DACVDD (power) "DAC core supply voltage. (1.2 V). It is recommended to isolate this supply from CLKVDD and DIGVDD.", K10 DACVDD (power) "DAC core supply voltage. (1.2 V). It is recommended to isolate this supply from CLKVDD and DIGVDD.", K11 AVDD (power) "Analog supply voltage. (3.3 V)", K12 CLKVDD (power) "Internal clock buffer supply voltage. (1.2 V). It is recommended to isolate this supply from DIGVDD and DACVDD.", L5 IOVDD (power) "Supply voltage for all LVDS I/O. (3.3 V)", L6 IOVDD (power) "Supply voltage for all LVDS I/O. (3.3 V)", L7 VFUSE (power) "Digital supply voltage. This supply pin is also used for factory fuse programming. Connect to DACVDD or DIGVDD for normal operation.", L9 DACVDD (power) "DAC core supply voltage. (1.2 V). It is recommended to isolate this supply from CLKVDD and DIGVDD.", L10 AVDD (power) "Analog supply voltage. (3.3 V)", L12 IOVDD2 (power) "Supply voltage for all CMOS I/O. (1.8 to 3.3V) This supply can range from 1.8V to 3.3V to change the input and output level of the CMOS I/O."
part E pins: A10 GND (power) "These pins are ground for all supplies.", A13 GND (power) "These pins are ground for all supplies.", A14 GND (power) "These pins are ground for all supplies.", B10 GND (power) "These pins are ground for all supplies.", B11 GND (power) "These pins are ground for all supplies.", B12 GND (power) "These pins are ground for all supplies.", B13 GND (power) "These pins are ground for all supplies.", C5 GND (power) "These pins are ground for all supplies.", C6 GND (power) "These pins are ground for all supplies.", C7 GND (power) "These pins are ground for all supplies.", C8 GND (power) "These pins are ground for all supplies.", C9 GND (power) "These pins are ground for all supplies.", C10 GND (power) "These pins are ground for all supplies.", C13 GND (power) "These pins are ground for all supplies.", D8 GND (power) "These pins are ground for all supplies.", D13 GND (power) "These pins are ground for all supplies.", D14 GND (power) "These pins are ground for all supplies.", E8 GND (power) "These pins are ground for all supplies.", E12 GND (power) "These pins are ground for all supplies.", E13 GND (power) "These pins are ground for all supplies.", F6 GND (power) "These pins are ground for all supplies.", F7 GND (power) "These pins are ground for all supplies.", F8 GND (power) "These pins are ground for all supplies.", F9 GND (power) "These pins are ground for all supplies.", F12 GND (power) "These pins are ground for all supplies.", F13 GND (power) "These pins are ground for all supplies.", G6 GND (power) "These pins are ground for all supplies.", G7 GND (power) "These pins are ground for all supplies.", G8 GND (power) "These pins are ground for all supplies.", G9 GND (power) "These pins are ground for all supplies.", G13 GND (power) "These pins are ground for all supplies.", G14 GND (power) "These pins are ground for all supplies.", H6 GND (power) "These pins are ground for all supplies.", H7 GND (power) "These pins are ground for all supplies.", H8 GND (power) "These pins are ground for all supplies.", H9 GND (power) "These pins are ground for all supplies.", H13 GND (power) "These pins are ground for all supplies.", H14 GND (power) "These pins are ground for all supplies.", J6 GND (power) "These pins are ground for all supplies.", J7 GND (power) "These pins are ground for all supplies.", J8 GND (power) "These pins are ground for all supplies.", J9 GND (power) "These pins are ground for all supplies.", J12 GND (power) "These pins are ground for all supplies.", J13 GND (power) "These pins are ground for all supplies.", K8 GND (power) "These pins are ground for all supplies.", K13 GND (power) "These pins are ground for all supplies.", L8 GND (power) "These pins are ground for all supplies.", L13 GND (power) "These pins are ground for all supplies.", L14 GND (power) "These pins are ground for all supplies.", M5 GND (power) "These pins are ground for all supplies.", M6 GND (power) "These pins are ground for all supplies.", M7 GND (power) "These pins are ground for all supplies.", M8 GND (power) "These pins are ground for all supplies.", M9 GND (power) "These pins are ground for all supplies.", M10 GND (power) "These pins are ground for all supplies.", M11 GND (power) "These pins are ground for all supplies.", M12 GND (power) "These pins are ground for all supplies.", M13 GND (power) "These pins are ground for all supplies.", N13 GND (power) "These pins are ground for all supplies.", P13 GND (power) "These pins are ground for all supplies.", P14 GND (power) "These pins are ground for all supplies."